# EAGLE library part LM26LV (library berkeley-epic)
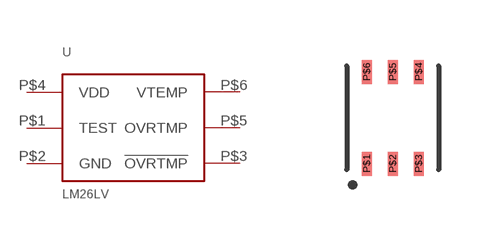
[diagram p10: symbol with the pads of LLP-6; footprint LLP-6]

Designator prefix U

## LM26LV  [LLP-6]
P$1  TEST
P$2  GND
P$3  !OVRTMP
P$4  VDD
P$5  OVRTMP
P$6  VTEMP

## Footprint LLP-6 (pad centres in mm)
smd 0.25 x 0.6: P$1 -0.65,-1.15; P$2 0,-1.15; P$3 0.65,-1.15; P$4 0.65,1.15; P$5 0,1.15; P$6 -0.65,1.15